# Altium footprint library VLF10040T-4R7N5R4.PCBLIB: 1 footprints
Each footprint in its own frame and in the unit in brackets; x right, y up, seen from the top. Pads: shape width x height; smd on the part's side, far side on the other; paste and mask are expansions set on the pad; w line width, h text height; cw(c..) or ccw(c..) is an arc to the next point about the centre after c.
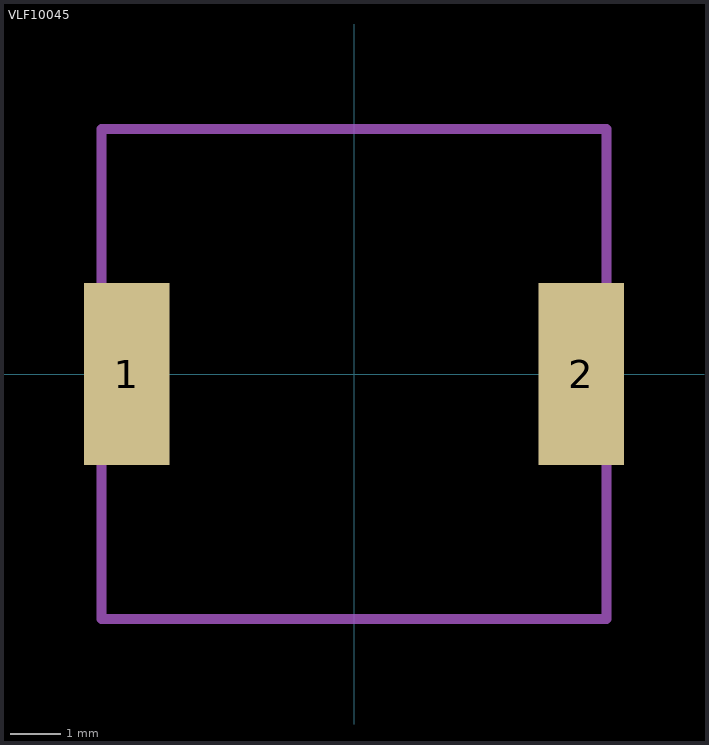
[diagram p0: the footprint, top view; thin cyan lines are the x and y axes]

## VLF10045 [mm]
pads (2):
  rect 1.7x3.6 smd: 1(-4.5,0) 2(4.5,0)
Mechanical 8:
  lines w0.2: -5,-4.85 5,-4.85 5,4.85 -5,4.85 -5,-4.85
Mechanical 22:
  lines w0.2: -5,-2.1 -5,-4.85 5,-4.85 5,-2.1 ; -5,2.1 -5,4.85 5,4.85 5,2.1